# EAGLE library part SICK (library ecar)
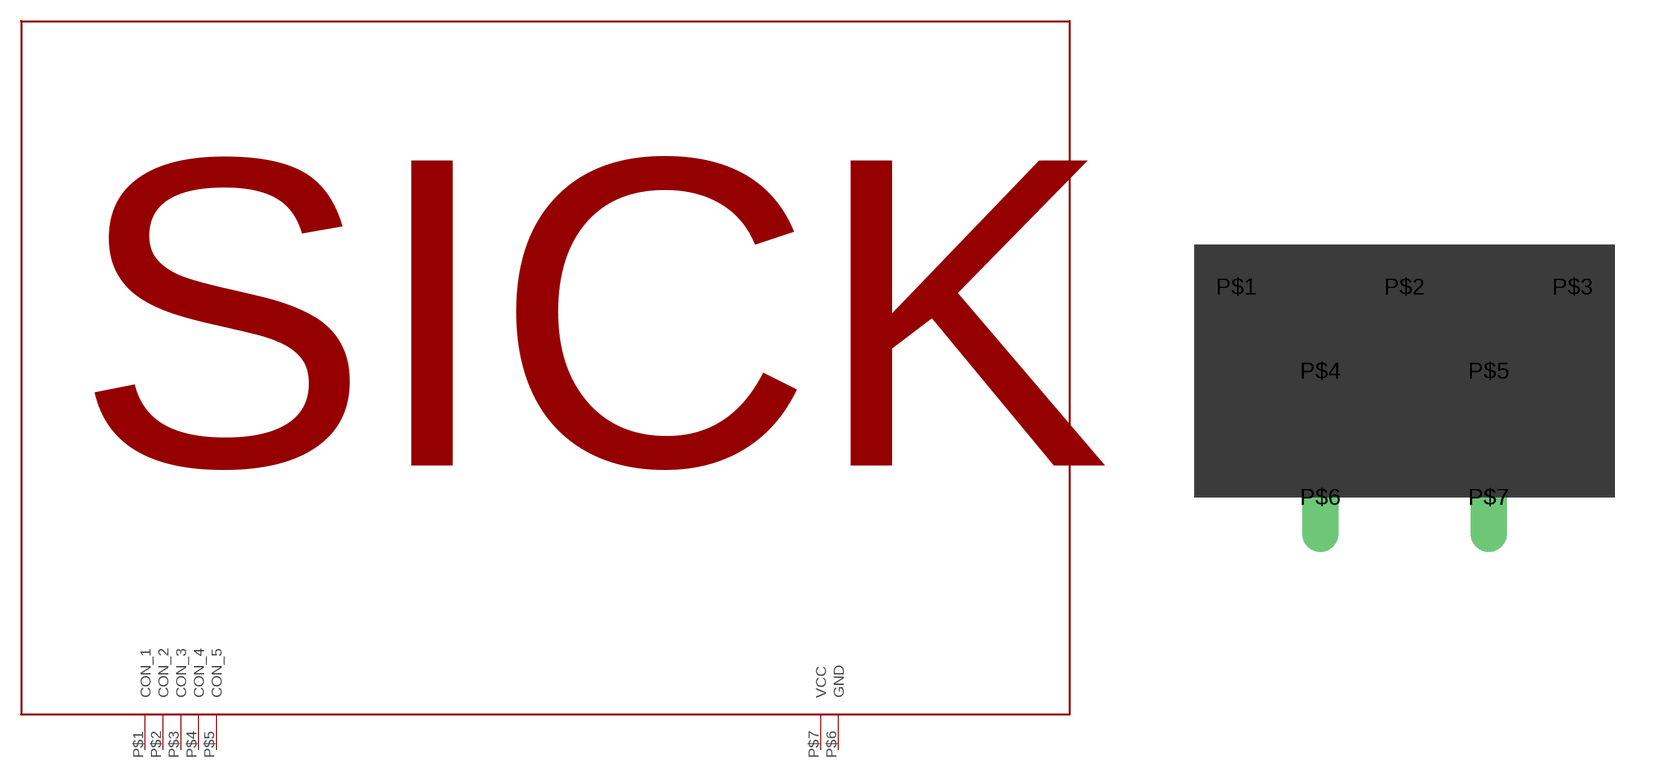
[diagram p10: symbol with the pads of SICK; footprint SICK]

Designator prefix -

## SICK  [SICK]
P$1  CON_1
P$2  CON_2
P$3  CON_3
P$4  CON_4
P$5  CON_5
P$6  GND
P$7  VCC

## Footprint SICK (pad centres in mm)
drill 0.6 square: P$1 1.27,6.35; P$2 6.35,6.35; P$3 11.43,6.35; P$4 3.81,3.81; P$5 8.89,3.81
drill 0.6 offset: P$6 3.81,0; P$7 8.89,0